# Altium footprint library transistor-power.PCBLIB: 89 footprints (part 4 of 6)
Each footprint in its own frame and in the unit in brackets; x right, y up, seen from the top. Pads: shape width x height; smd on the part's side, far side on the other; paste and mask are expansions set on the pad; w line width, h text height; cw(c..) or ccw(c..) is an arc to the next point about the centre after c.
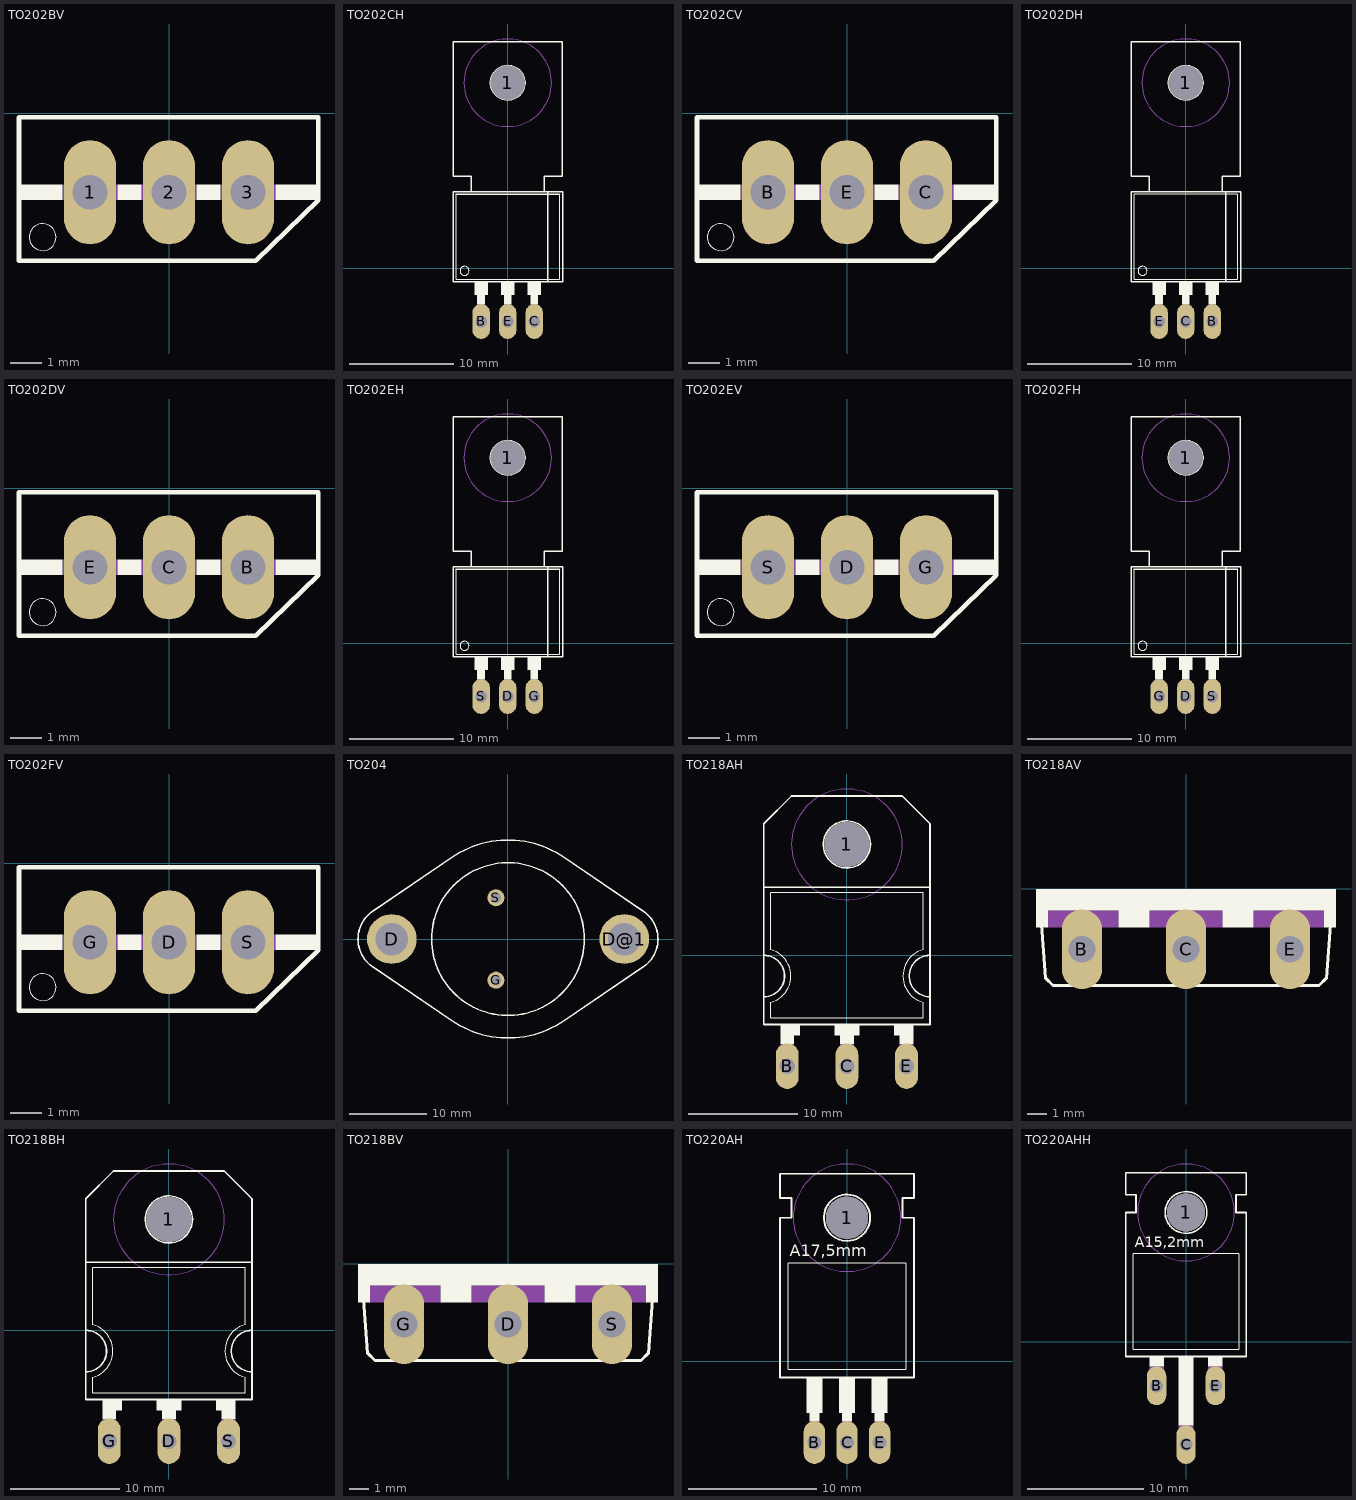
[diagram p3: the footprints below, top view; thin cyan lines are the x and y axes]

## TO202BV [mil]
pads (3):
  oval 66x132 hole 44: 1(-100,-100) 2(0,-100) 3(100,-100)
Top Overlay:
  circle w0: c-160,-157 r17
  rectangle: 135,-110 190,-90
  rectangle: 35,-110 65,-90
  rectangle: -65,-110 -35,-90
  rectangle: -190,-110 -135,-90
  lines w6: -190,-187 110,-187 189,-110 189,-5 -190,-5 -190,-187
Mechanical 16:
  rectangle: -135,-110 -65,-90
  rectangle: -35,-110 35,-90
  rectangle: 65,-110 135,-90

## TO202CH [mil]
pads (4):
  round 130 hole 130: 1(0,700)
  oval 66x132 hole 44: B(-100,-200) C(100,-200) E(0,-200)
Top Overlay:
  circle w0: c-163,-9 r17
  circle w6: c0,700 r65
  rectangle: -25,-100 25,-50
  rectangle: 75,-100 125,-50
  rectangle: -125,-100 -75,-50
  rectangle: -115,-135 -85,-100
  rectangle: -15,-135 15,-100
  rectangle: 85,-135 115,-100
  lines w2: -195,280 -195,-40 195,-40 195,280
  lines w6: -195,280 195,280 ; -138,289 -138,347 -205,347 -205,855 205,855 205,347 138,347 138,289 ; -138,289 -205,289 -205,-50 151,-50 ; -138,289 138,289 ; 138,289 151,289 ; 151,-50 151,289 ; 151,-50 207,-50 207,289 151,289
Mechanical 9:
  circle w0: c0,700 r165
Mechanical 10:
  circle w0: c0,700 r165
Mechanical 16:
  rectangle: -115,-205 -85,-135
  rectangle: -15,-205 15,-135
  rectangle: 85,-205 115,-135

## TO202CV [mil]
pads (3):
  oval 66x132 hole 44: B(-100,-100) C(100,-100) E(0,-100)
Top Overlay:
  circle w0: c-160,-157 r17
  rectangle: 135,-110 190,-90
  rectangle: 35,-110 65,-90
  rectangle: -65,-110 -35,-90
  rectangle: -190,-110 -135,-90
  lines w6: -190,-187 110,-187 189,-110 189,-5 -190,-5 -190,-187
Mechanical 16:
  rectangle: -135,-110 -65,-90
  rectangle: -35,-110 35,-90
  rectangle: 65,-110 135,-90

## TO202DH [mil]
pads (4):
  round 130 hole 130: 1(0,700)
  oval 66x132 hole 44: B(100,-200) C(0,-200) E(-100,-200)
Top Overlay:
  circle w0: c-163,-9 r17
  circle w6: c0,700 r65
  rectangle: -25,-100 25,-50
  rectangle: 75,-100 125,-50
  rectangle: -125,-100 -75,-50
  rectangle: -115,-135 -85,-100
  rectangle: -15,-135 15,-100
  rectangle: 85,-135 115,-100
  lines w2: -195,-40 195,-40 195,280 -195,280 -195,-40
  lines w6: -138,289 -138,347 -205,347 -205,855 205,855 205,347 138,347 138,289 ; -138,289 -205,289 -205,-50 151,-50 ; -138,289 138,289 ; 138,289 151,289 ; 151,-50 151,289 ; 151,-50 207,-50 207,289 151,289
Mechanical 9:
  circle w0: c0,700 r165
Mechanical 10:
  circle w0: c0,700 r165
Mechanical 16:
  rectangle: -115,-205 -85,-135
  rectangle: -15,-205 15,-135
  rectangle: 85,-205 115,-135

## TO202DV [mil]
pads (3):
  oval 66x132 hole 44: B(100,-100) C(0,-100) E(-100,-100)
Top Overlay:
  circle w0: c-160,-157 r17
  rectangle: 135,-110 190,-90
  rectangle: 35,-110 65,-90
  rectangle: -65,-110 -35,-90
  rectangle: -190,-110 -135,-90
  lines w6: -190,-187 110,-187 189,-110 189,-5 -190,-5 -190,-187
Mechanical 16:
  rectangle: -135,-110 -65,-90
  rectangle: -35,-110 35,-90
  rectangle: 65,-110 135,-90

## TO202EH [mil]
pads (4):
  round 130 hole 130: 1(0,700)
  oval 66x132 hole 44: D(0,-200) G(100,-200) S(-100,-200)
Top Overlay:
  circle w0: c-163,-9 r17
  circle w6: c0,700 r65
  rectangle: -25,-100 25,-50
  rectangle: 75,-100 125,-50
  rectangle: -125,-100 -75,-50
  rectangle: -115,-135 -85,-100
  rectangle: -15,-135 15,-100
  rectangle: 85,-135 115,-100
  lines w2: -195,280 -195,-40 195,-40 195,280
  lines w6: -195,280 195,280 ; -138,289 -138,347 -205,347 -205,855 205,855 205,347 138,347 138,289 ; -138,289 -205,289 -205,-50 151,-50 ; -138,289 138,289 ; 138,289 151,289 ; 151,-50 151,289 ; 151,-50 207,-50 207,289 151,289
Mechanical 9:
  circle w0: c0,700 r165
Mechanical 10:
  circle w0: c0,700 r165
Mechanical 16:
  rectangle: -115,-205 -85,-135
  rectangle: -15,-205 15,-135
  rectangle: 85,-205 115,-135

## TO202EV [mil]
pads (3):
  oval 66x132 hole 44: D(0,-100) G(100,-100) S(-100,-100)
Top Overlay:
  circle w0: c-160,-157 r17
  rectangle: 135,-110 190,-90
  rectangle: 35,-110 65,-90
  rectangle: -65,-110 -35,-90
  rectangle: -190,-110 -135,-90
  lines w6: -190,-187 110,-187 189,-110 189,-5 -190,-5 -190,-187
Mechanical 16:
  rectangle: -135,-110 -65,-90
  rectangle: -35,-110 35,-90
  rectangle: 65,-110 135,-90

## TO202FH [mil]
pads (4):
  round 130 hole 130: 1(0,700)
  oval 66x132 hole 44: D(0,-200) G(-100,-200) S(100,-200)
Top Overlay:
  circle w0: c-163,-9 r17
  circle w6: c0,700 r65
  rectangle: -25,-100 25,-50
  rectangle: 75,-100 125,-50
  rectangle: -125,-100 -75,-50
  rectangle: -115,-135 -85,-100
  rectangle: -15,-135 15,-100
  rectangle: 85,-135 115,-100
  lines w2: -195,280 -195,-40 195,-40 195,280
  lines w6: -195,280 195,280 ; -138,289 -138,347 -205,347 -205,855 205,855 205,347 138,347 138,289 ; -138,289 -205,289 -205,-50 151,-50 ; -138,289 138,289 ; 138,289 151,289 ; 151,-50 151,289 ; 151,-50 207,-50 207,289 151,289
Mechanical 9:
  circle w0: c0,700 r165
Mechanical 10:
  circle w0: c0,700 r165
Mechanical 16:
  rectangle: -115,-205 -85,-135
  rectangle: -15,-205 15,-135
  rectangle: 85,-205 115,-135

## TO202FV [mil]
pads (3):
  oval 66x132 hole 44: D(0,-100) G(-100,-100) S(100,-100)
Top Overlay:
  circle w0: c-160,-157 r17
  rectangle: 135,-110 190,-90
  rectangle: 35,-110 65,-90
  rectangle: -65,-110 -35,-90
  rectangle: -190,-110 -135,-90
  lines w6: -190,-187 110,-187 189,-110 189,-5 -190,-5 -190,-187
Mechanical 16:
  rectangle: -135,-110 -65,-90
  rectangle: -35,-110 35,-90
  rectangle: 65,-110 135,-90

## TO204 [mil]
pads (4):
  round 254 hole 166: D(-593.5,0) D@1(594,0)
  round 87 hole 52: G(-61.61,-210.04) S(-61.61,211)
Top Overlay:
  circle w8: c0,0 r390
  lines w8: -690.94,-141.73 -285.43,-417.32 ccw(c0.28,3.09) 286,-417.32 691,-141.73 ccw(c594.59,0.13) 691,142 286,418 ccw(c0.28,-2.41) -285.43,418 -690.94,142 ccw(c-594.53,0.13) -690.94,-141.73

## TO218AH [mil]
pads (4):
  round 162 hole 162: 1(0,400)
  oval 82.5x165 hole 55: B(-215,-400) C(0,-400) E(215,-400)
Top Overlay:
  circle w6: c0,400 r85
  rectangle: -240,-290 -170,-250
  rectangle: 170,-290 240,-250
  rectangle: -45,-290 45,-250
  rectangle: -240,-320 -190,-250
  rectangle: -25,-320 25,-250
  rectangle: 190,-320 240,-250
  lines w2: 274,20 ccw(c300.69,-74.73) 276,-169.99 ; 275,-170 275,-225 -275,-225 -275,-170 ccw(c-300,-75) -275,20 -275,225 275,225 275,20
  lines w6: -300,-150 -300,-250 300,-250 300,-150 ; -300,-150 -300,0 ; -300,-150 ccw(c-300,-75) -300,0 ; -300,0 -300,245 ; -300,245 300,245 ; -300,245 -300,475 -200,575 200,575 300,475 300,245 ; 300,-150 300,0 ; 300,-150 cw(c300,-75) 300,0 ; 300,0 300,245
Mechanical 9:
  circle w0: c0,400 r200
Mechanical 10:
  circle w0: c0,400 r200
Mechanical 16:
  rectangle: -240,-405 -190,-320
  rectangle: -25,-405 25,-320
  rectangle: 190,-405 240,-320

## TO218AV [mil]
pads (3):
  oval 82.5x165 hole 55: B(-215,-125) C(0,-125) E(215,-125)
Top Overlay:
  rectangle: -310,-45 310,0
  rectangle: -140,-80 -75,-45
  rectangle: 75,-80 140,-45
  rectangle: -310,-80 -285,-45
  rectangle: 285,-80 310,-45
  lines w6: -300,-60 -290,-185 -275,-200 275,-200 290,-185 300,-60
Mechanical 16:
  rectangle: 140,-80 285,-45
  rectangle: -285,-80 -140,-45
  rectangle: -75,-80 75,-45

## TO218BH [mil]
pads (4):
  round 162 hole 162: 1(0,400)
  oval 82.5x165 hole 55: D(0,-400) G(-215,-400) S(215,-400)
Top Overlay:
  circle w6: c0,400 r85
  rectangle: -240,-290 -170,-250
  rectangle: 170,-290 240,-250
  rectangle: -45,-290 45,-250
  rectangle: -240,-320 -190,-250
  rectangle: -25,-320 25,-250
  rectangle: 190,-320 240,-250
  lines w2: 274,20 ccw(c300.69,-74.73) 276,-169.99 ; 275,-170 275,-225 -275,-225 -275,-170 ccw(c-300,-75) -275,20 -275,225 275,225 275,20
  lines w6: -300,-150 -300,-250 300,-250 300,-150 ; -300,-150 -300,0 ; -300,-150 ccw(c-300,-75) -300,0 ; -300,0 -300,245 ; -300,245 300,245 ; -300,245 -300,475 -200,575 200,575 300,475 300,245 ; 300,-150 300,0 ; 300,-150 cw(c300,-75) 300,0 ; 300,0 300,245
Mechanical 9:
  circle w0: c0,400 r200
Mechanical 10:
  circle w0: c0,400 r200
Mechanical 16:
  rectangle: -240,-405 -190,-320
  rectangle: -25,-405 25,-320
  rectangle: 190,-405 240,-320

## TO218BV [mil]
pads (3):
  oval 82.5x165 hole 55: D(0,-125) G(-215,-125) S(215,-125)
Top Overlay:
  rectangle: -310,-45 310,0
  rectangle: -140,-80 -75,-45
  rectangle: 75,-80 140,-45
  rectangle: -310,-80 -285,-45
  rectangle: 285,-80 310,-45
  lines w6: -300,-60 -290,-185 -275,-200 275,-200 290,-185 300,-60
Mechanical 16:
  rectangle: 140,-80 285,-45
  rectangle: -285,-80 -140,-45
  rectangle: -75,-80 75,-45

## TO220AH [mil]
pads (4):
  round 130 hole 130: 1(0,440)
  oval 66x132 hole 44: B(-100,-250) C(0,-250) E(100,-250)
Top Overlay:
  circle w6: c0,440 r71
  rectangle: 85,-185 115,-160
  rectangle: -15,-185 15,-160
  rectangle: -115,-185 -85,-160
  rectangle: -125,-160 -75,-50
  rectangle: -25,-160 25,-50
  rectangle: 75,-160 125,-50
  lines w2: -180,-25 180,-25 180,300 -180,300 -180,-25
  lines w6: -205,-50 205,-50 205,440 170,440 170,500 205,500 205,575 -205,575 -205,500 -170,500 -170,440 -205,440 -205,-50
  text "A17,5mm" at -175,310 h62
Mechanical 9:
  circle w0: c0,440 r165
Mechanical 10:
  circle w0: c0,440 r165
Mechanical 16:
  rectangle: -115,-260 -85,-185
  rectangle: -15,-260 15,-185
  rectangle: 85,-260 115,-185

## TO220AHH [mil]
pads (4):
  round 130 hole 130: 1(0,440)
  oval 66x132 hole 44: B(-100,-150) C(0,-350) E(100,-150)
Top Overlay:
  circle w6: c0,440 r71
  rectangle: -125,-85 -75,-50
  rectangle: 75,-85 125,-50
  rectangle: -25,-285 25,-50
  lines w2: -180,-25 180,-25 180,300 -180,300 -180,-25
  lines w6: -205,-50 205,-50 205,440 170,440 170,500 205,500 205,575 -205,575 -205,500 -170,500 -170,440 -205,440 -205,-50
  text "A15,2mm" at -175,310 h62
Mechanical 9:
  circle w0: c0,440 r165
Mechanical 10:
  circle w0: c0,440 r165
Mechanical 16:
  rectangle: -125,-150 -75,-85
  rectangle: -25,-350 25,-285
  rectangle: 75,-150 125,-85